# Altium schematic symbol library 467650001.SchLib: 1 symbol
Pins are listed as number, name and electrical type; pins without a type are passive.

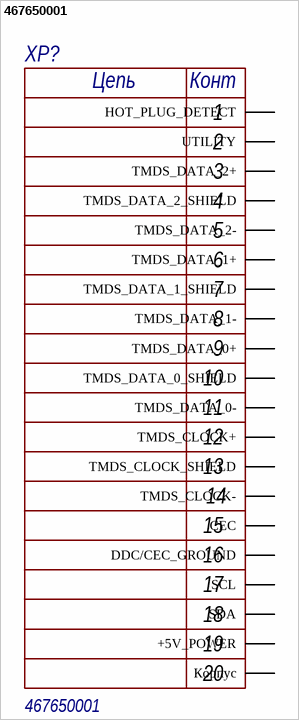
[diagram p0: symbol 467650001]

## 467650001
designator XP?
pins: 1 HOT_PLUG_DETECT, 2 UTILITY, 3 TMDS_DATA_2+, 4 TMDS_DATA_2_SHIELD, 5 TMDS_DATA_2-, 6 TMDS_DATA_1+, 7 TMDS_DATA_1_SHIELD, 8 TMDS_DATA_1-, 9 TMDS_DATA_0+, 10 TMDS_DATA_0_SHIELD, 11 TMDS_DATA_0-, 12 TMDS_CLOCK+, 13 TMDS_CLOCK_SHIELD, 14 TMDS_CLOCK-, 15 CEC, 16 DDC/CEC_GROUND, 17 SCL, 18 SDA, 19 +5V_POWER, SH Корпус
text: Цепь; Конт; 20